# EAGLE library part 677006144621 (library EagleLibrary_Wuerth_Elektronik_eiCan_Communication_Connectors_v6_20150113)
WR-COM Vertical Receptacle IEEE 1394 / Fire Wire, 6 pins=>Code : Con_I-O_COM_IEEE_677006144621 <http://katalog.we-online.de/media/images/eican/Con_I-O_COM_IEEE_677006144621_pf2.jpg> Details see: http://katalog.we-online.de/en/em/677_006_144_621 Created 2014-07-09, Karrer Zheng 2014 (C) Würth Elektronik
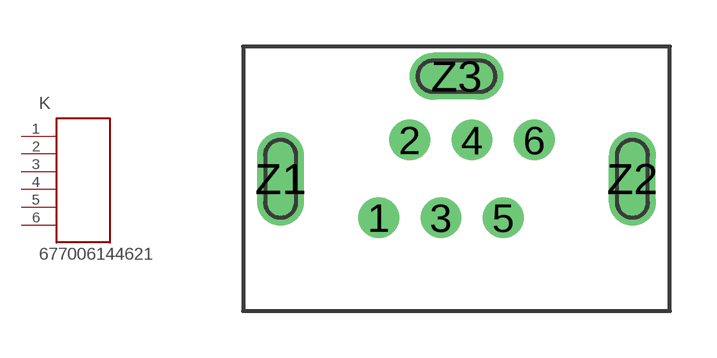
[diagram p73: symbol with the pads of 677006144621; footprint 677006144621]

Designator prefix K

## 677006144621  [677006144621]
1  1  pas
2  2  pas
3  3  pas
4  4  pas
5  5  pas
6  6  pas

## Footprint 677006144621 (pad centres in mm)
WR-COM Vertical Receptacle IEEE 1394 / Fire Wire, 6 pins
drill 0.8: 1 -2.5,-1.25; 2 -1.5,1.25; 3 -0.5,-1.25; 4 0.5,1.25; 5 1.5,-1.25; 6 2.5,1.25
drill 1 long: Z1 -5.65,0; Z2 5.65,0; Z3 0,3.3